# Altium schematic symbol library Modules.SchLib: 12 symbols
Pins are listed as number, name and electrical type; pins without a type are passive.

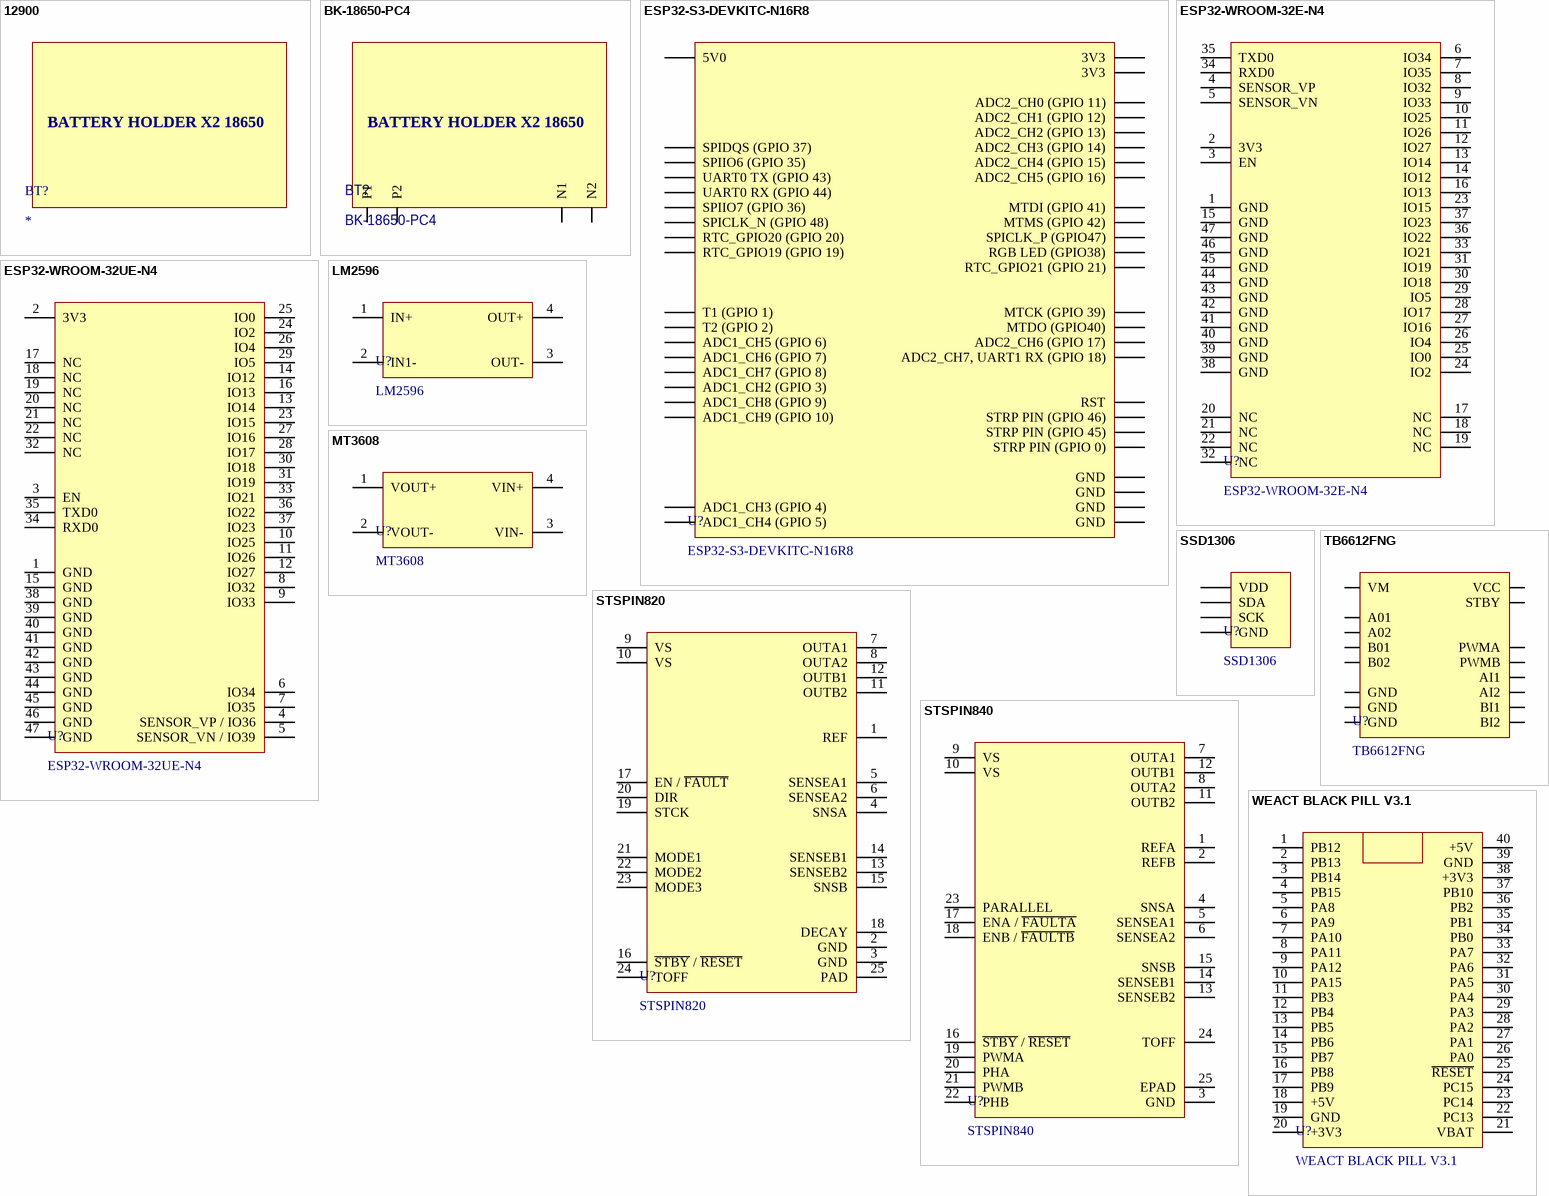
[diagram p0: symbols 12900 to WEACT BLACK PILL V3.1]

## 12900
designator BT?
BATT HOLDER 18650 2 CELL LEADS; Manufacturer: SparkFun; Manufacturer Part Number: 12900; Supplier: DigiKey; Supplier Part Number: 1568-12900-ND; Pricing: 1=1.95 (USD)
footprint BATT_HOLDER_2X_18650
text: BATTERY HOLDER X2 18650

## BK-18650-PC4
designator BT?
BATT HOLDER 18650 2 CELL PC PIN; Manufacturer: Memory Protection Devices; Number of Cells: 2; Supplier: DigiKey; Supplier Part Number: BK-18650-PC4-ND; Manufacturer Part Number: BK-18650-PC4; RoHS: Compliant; Description: Batt Holder 18650 2 Cell Pc Pin; Category: Uncategorized; Stock: 1917; Pricing: 1=5.16, 10=4.284, 50=3.7618, 100=3.5567, 300=3.25453, 500=3.12286, 1000=2.95273, 2500=2.74192 (USD); Mounting Technology: PCB, Through Hole; Termination: PC Pin; ComponentLink1URL: https://datasheet.octopart.com:443/BK-18650-PC4-MPD-datasheet-192382394.pdf?src-supplier=Electro+Sonic; ComponentLink1Description: https://datasheet.octopart.com:443/BK-18650-PC4-MPD-datasheet-192382394.pdf?src-supplier=Electro+Sonic; ComponentLink2URL: https://datasheet.octopart.com:443/BK-18650-PC4-MPD-datasheet-17724539.pdf?src-supplier=Master+Electronics; ComponentLink2Description: https://datasheet.octopart.com:443/BK-18650-PC4-MPD-datasheet-17724539.pdf?src-supplier=Master+Electronics
footprint BATT_BK-18650-PC4
pins: N1, N2, P1, P2
text: BATTERY HOLDER X2 18650

## ESP32-S3-DEVKITC-N16R8
designator U?
footprint ESP32-S3-DevKitC
pins: J1_1 3V3, J1_2 3V3, J1_3 RST, J1_4 ADC1_CH3 (GPIO 4), J1_5 ADC1_CH4 (GPIO 5), J1_6 ADC1_CH5 (GPIO 6), J1_7 ADC1_CH6 (GPIO 7), J1_8 ADC2_CH4 (GPIO 15), J1_9 ADC2_CH5 (GPIO 16), J1_10 ADC2_CH6 (GPIO 17), J1_11 ADC2_CH7, UART1 RX (GPIO 18), J1_12 ADC1_CH7 (GPIO 8), J1_13 ADC1_CH2 (GPIO 3), J1_14 STRP PIN (GPIO 46), J1_15 ADC1_CH8 (GPIO 9), J1_16 ADC1_CH9 (GPIO 10), J1_17 ADC2_CH0 (GPIO 11), J1_18 ADC2_CH1 (GPIO 12), J1_19 ADC2_CH2 (GPIO 13), J1_20 ADC2_CH3 (GPIO 14), J1_21 5V0, J1_22 GND, J2_1 GND, J2_2 UART0 TX (GPIO 43), J2_3 UART0 RX (GPIO 44), J2_4 T1 (GPIO 1), J2_5 T2 (GPIO 2), J2_6 MTMS (GPIO 42), J2_7 MTDI (GPIO 41), J2_8 MTDO (GPIO40), J2_9 MTCK (GPIO 39), J2_10 RGB LED (GPIO38), J2_11 SPIDQS (GPIO 37), J2_12 SPIIO7 (GPIO 36), J2_13 SPIIO6 (GPIO 35), J2_14 STRP PIN (GPIO 0), J2_15 STRP PIN (GPIO 45), J2_16 SPICLK_N (GPIO 48), J2_17 SPICLK_P (GPIO47), J2_18 RTC_GPIO21 (GPIO 21), J2_19 RTC_GPIO20 (GPIO 20), J2_20 RTC_GPIO19 (GPIO 19), J2_21 GND, J2_22 GND

## ESP32-WROOM-32E-N4
designator U?
RF TXRX MOD BT WIFI TH SMD; Manufacturer: Espressif Systems; Supplier: Digikey; Supplier Part Number: 1965-ESP32-WROOM-32E-N4CT-ND; Manufacturer Part Number: ESP32-WROOM-32E-N4; RoHS: No; Category: LDO; Stock: 10035; Pricing: 1=2.5 (USD); ComponentLink1URL: https://datasheet.octopart.com/ESP32-WROOM-32E-N4-Espressif-Systems-datasheet-165560559.pdf?src-supplier=TME; ComponentLink1Description: https://datasheet.octopart.com/ESP32-WROOM-32E-N4-Espressif-Systems-datasheet-165560559.pdf?src-supplier=TME
footprint ESP32-WROOM-32E-N4
pins: 1 GND, 2 3V3, 3 EN, 4 SENSOR_VP, 5 SENSOR_VN, 6 IO34, 7 IO35, 8 IO32, 9 IO33, 10 IO25, 11 IO26, 12 IO27, 13 IO14, 14 IO12, 15 GND, 16 IO13, 17 NC, 18 NC, 19 NC, 20 NC, 21 NC, 22 NC, 23 IO15, 24 IO2, 25 IO0, 26 IO4, 27 IO16, 28 IO17, 29 IO5, 30 IO18, 31 IO19, 32 NC, 33 IO21, 34 RXD0, 35 TXD0, 36 IO22, 37 IO23, 38 GND, 39 GND, 40 GND, 41 GND, 42 GND, 43 GND, 44 GND, 45 GND, 46 GND, 47 GND

## ESP32-WROOM-32UE-N4
designator U?
Manufacturer: Espressif Systems; Supplier: Digikey; Supplier Part Number: 1965-ESP32-WROOM-32UE-N4CT-ND; Manufacturer Part Number: ESP32-WROOM-32UE-N4; RoHS: No; Category: LDO; Stock: 2755; Pricing: 1=2.5 (USD); ComponentLink1URL: https://datasheet.octopart.com/ESP32-WROOM-32UE-N4-Espressif-Systems-datasheet-165560559.pdf?src-supplier=TME; ComponentLink1Description: https://datasheet.octopart.com/ESP32-WROOM-32UE-N4-Espressif-Systems-datasheet-165560559.pdf?src-supplier=TME
footprint ESP32-WROOM-32UE-N4
pins: 1 GND, 2 3V3, 3 EN, 4 SENSOR_VP / IO36, 5 SENSOR_VN / IO39, 6 IO34, 7 IO35, 8 IO32, 9 IO33, 10 IO25, 11 IO26, 12 IO27, 13 IO14, 14 IO12, 15 GND, 16 IO13, 17 NC, 18 NC, 19 NC, 20 NC, 21 NC, 22 NC, 23 IO15, 24 IO2, 25 IO0, 26 IO4, 27 IO16, 28 IO17, 29 IO5, 30 IO18, 31 IO19, 32 NC, 33 IO21, 34 RXD0, 35 TXD0, 36 IO22, 37 IO23, 38 GND, 39 GND, 40 GND, 41 GND, 42 GND, 43 GND, 44 GND, 45 GND, 46 GND, 47 GND

## LM2596
designator U?
footprint LM2596
pins: 1 IN+, 2 IN1-, 3 OUT-, 4 OUT+

## MT3608
designator U?
footprint MT3608
pins: 1 VOUT+, 2 VOUT-, 3 VIN-, 4 VIN+

## SSD1306
designator U?
footprint SSD1306
pins: 1 GND, 2 VDD, 3 SCK, 4 SDA

## STSPIN820
designator U?
IC MTR DRVR BIPLR 7-45V 24TFQFPN; Manufacturer: STMicroelectronics; Throw Configuration: STEPPER MOTOR CONTROLLER; Supplier: Digikey; Supplier Part Number: 497-17713-1-ND; Manufacturer Part Number: STSPIN820; RoHS: Yes; Category: Motor Drives; Stock: 11767; Pricing: 1=3.03, 10=2.271, 25=2.0804, 100=1.8709, 250=1.77096, 500=1.71068, 1000=1.66108 (USD); Reach SVHC Compliant: Yes; RoHS Compliant: Yes; ComponentLink1URL: https://datasheet.ciiva.com:443/pdfs/VipMasterIC/IC/SGST/SGST-S-A0005002811/SGST-S-A0005002811-1.pdf?src-supplier=IHS+Markit; ComponentLink1Description: https://datasheet.ciiva.com:443/pdfs/VipMasterIC/IC/SGST/SGST-S-A0005002811/SGST-S-A0005002811-1.pdf?src-supplier=IHS+Markit; ComponentLink2URL: http://www.farnell.com/datasheets/2549178.pdf?src-supplier=Farnell; ComponentLink2Description: http://www.farnell.com/datasheets/2549178.pdf?src-supplier=Farnell; ComponentLink3URL: http://www.st.com/content/ccc/resource/technical/document/datasheet/group3/64/0a/8b/fb/e5/29/46/34/DM00436631/files/DM00436631.pdf/jcr:content/translations/en.DM00436631.pdf?src-supplier=Digikey; ComponentLink3Description: http://www.st.com/content/ccc/resource/technical/document/datasheet/group3/64/0a/8b/fb/e5/29/46/34/DM00436631/files/DM00436631.pdf/jcr:content/translations/en.DM00436631.pdf?src-supplier=Digikey; ComponentLink4URL: https://datasheet.octopart.com/STSPIN820-STMicroelectronics-datasheet-99887157.pdf?src-supplier=Newark; ComponentLink4Description: https://datasheet.octopart.com/STSPIN820-STMicroelectronics-datasheet-99887157.pdf?src-supplier=Newark; ComponentLink5URL: http://www.farnell.com/datasheets/2549178.pdf?src-supplier=Newark; ComponentLink5Description: http://www.farnell.com/datasheets/2549178.pdf?src-supplier=Newark; ComponentLink6URL: https://datasheet.octopart.com/STSPIN820-STMicroelectronics-datasheet-163660309.pdf?src-supplier=SHENGYU+ELECTRONICS; ComponentLink6Description: https://datasheet.octopart.com/STSPIN820-STMicroelectronics-datasheet-163660309.pdf?src-supplier=SHENGYU+ELECTRONICS
footprint QFN24_0-5MM-DIP
pins: 1 REF, 2 GND, 3 GND, 4 SNSA, 5 SENSEA1, 6 SENSEA2, 7 OUTA1, 8 OUTA2, 9 VS, 10 VS, 11 OUTB2, 12 OUTB1, 13 SENSEB2, 14 SENSEB1, 15 SNSB, 16 ~{STBY} / ~{RESET}, 17 EN / ~{FAULT}, 18 DECAY, 19 STCK, 20 DIR, 21 MODE1, 22 MODE2, 23 MODE3, 24 TOFF, 25 PAD

## STSPIN840
designator U?
IC MOTOR DRIVER 7V-45V 24TQFPN; Manufacturer: STMicroelectronics; Drain to Source Resistance: 500mΩ; Interface: Parallel; Max Output current: 1.5A; Max Supply Voltage: 45V; Min Supply Voltage: 7V; Number of Circuits: 1; Operating Supply Voltage: 36V; Output Voltage: 48V; Supplier: DigiKey; Supplier Part Number: 497-18119-1-ND; Manufacturer Part Number: STSPIN840; RoHS: Compliant; Category: Motor Drivers; Stock: 9342; Pricing: 1=2.95, 10=2.208, 25=2.022, 100=1.8174, 250=1.71984, 500=1.66102, 1000=1.61261 (USD); China RoHS: Compliant; Height - Seated (Max): 1.1mm; Length: 4mm; Lifecycle Status: Production; Max Operating Temperature: 150°C; Min Operating Temperature: -40°C; Number of Terminals: 24; Output Current: 1.5A; REACH SVHC: Yes; Schedule B: 8542390000, 8542390000|8542390000|8542390000|8542390000|8542390000; Terminal Pitch: 500µm; Width: 4mm; ComponentLink1URL: https://datasheet.octopart.com:443/STSPIN840-STMicroelectronics-datasheet-116891059.pdf?src-supplier=ODG+(Origin+Data+Global); ComponentLink1Description: https://datasheet.octopart.com:443/STSPIN840-STMicroelectronics-datasheet-116891059.pdf?src-supplier=ODG+(Origin+Data+Global)
footprint QFN24_0-5MM-DIP
pins: 1 REFA, 2 REFB, 3 GND, 4 SNSA, 5 SENSEA1, 6 SENSEA2, 7 OUTA1, 8 OUTA2, 9 VS, 10 VS, 11 OUTB2, 12 OUTB1, 13 SENSEB2, 14 SENSEB1, 15 SNSB, 16 ~{STBY} / ~{RESET}, 17 ENA / ~{FAULTA}, 18 ENB / ~{FAULTB}, 19 PWMA, 20 PHA, 21 PWMB, 22 PHB, 23 PARALLEL, 24 TOFF, 25 EPAD

## TB6612FNG
designator U?
TB6612FNG DC MOTOR DRIVER
footprint TB6612FNG
pins: 1 VM, 2 VCC, 3 GND, 4 A01, 5 A02, 6 B02, 7 B01, 8 GND, 9 GND, 10 PWMB, 11 BI2, 12 BI1, 13 STBY, 14 AI1, 15 AI2, 16 PWMA

## WEACT BLACK PILL V3.1
designator U?
STM32 - WEACT BLACK PILL V3.1
footprint STM32-BACK_PILL
pins: 1 PB12, 2 PB13, 3 PB14, 4 PB15, 5 PA8, 6 PA9, 7 PA10, 8 PA11, 9 PA12, 10 PA15, 11 PB3, 12 PB4, 13 PB5, 14 PB6, 15 PB7, 16 PB8, 17 PB9, 18 +5V, 19 GND, 20 +3V3, 21 VBAT, 22 PC13, 23 PC14, 24 PC15, 25 ~{RESET}, 26 PA0, 27 PA1, 28 PA2, 29 PA3, 30 PA4, 31 PA5, 32 PA6, 33 PA7, 34 PB0, 35 PB1, 36 PB2, 37 PB10, 38 +3V3, 39 GND, 40 +5V